# EAGLE library part SP7600EN2-L (library Exar_By_element14_Batch_1)
LED Driver
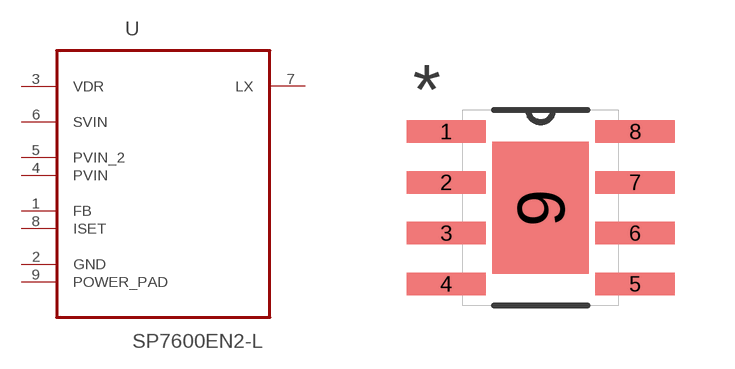
[diagram p59: symbol with the pads of SOIC127P600X170-9N; footprint SOIC127P600X170-9N]

Designator prefix U

## SP7600EN2-L (MPN: SP7600EN2-L; OC_FARNELL: 1761789; OC_NEWARK: 24R1205; PACKAGE: SOIC-8; SUPPLIER: Exar)  [SOIC127P600X170-9N]
1  FB  in
2  GND  pas
3  VDR  pwr
4  PVIN  in
5  PVIN_2  in
6  SVIN  pwr
7  LX  out
8  ISET  in
9  POWER_PAD  out

## Footprint SOIC127P600X170-9N (pad centres in mm)
smd 1.981 x 0.559: 1 -2.362,1.905; 2 -2.362,0.635; 3 -2.362,-0.635; 4 -2.362,-1.905; 5 2.362,-1.905; 6 2.362,-0.635; 7 2.362,0.635; 8 2.362,1.905
smd 2.413 x 3.302: 9 0,0